# Altium schematic symbol library WREL_AD10_Ben.SchLib: 69 symbols
Pins are listed as number, name and electrical type; pins without a type are passive.

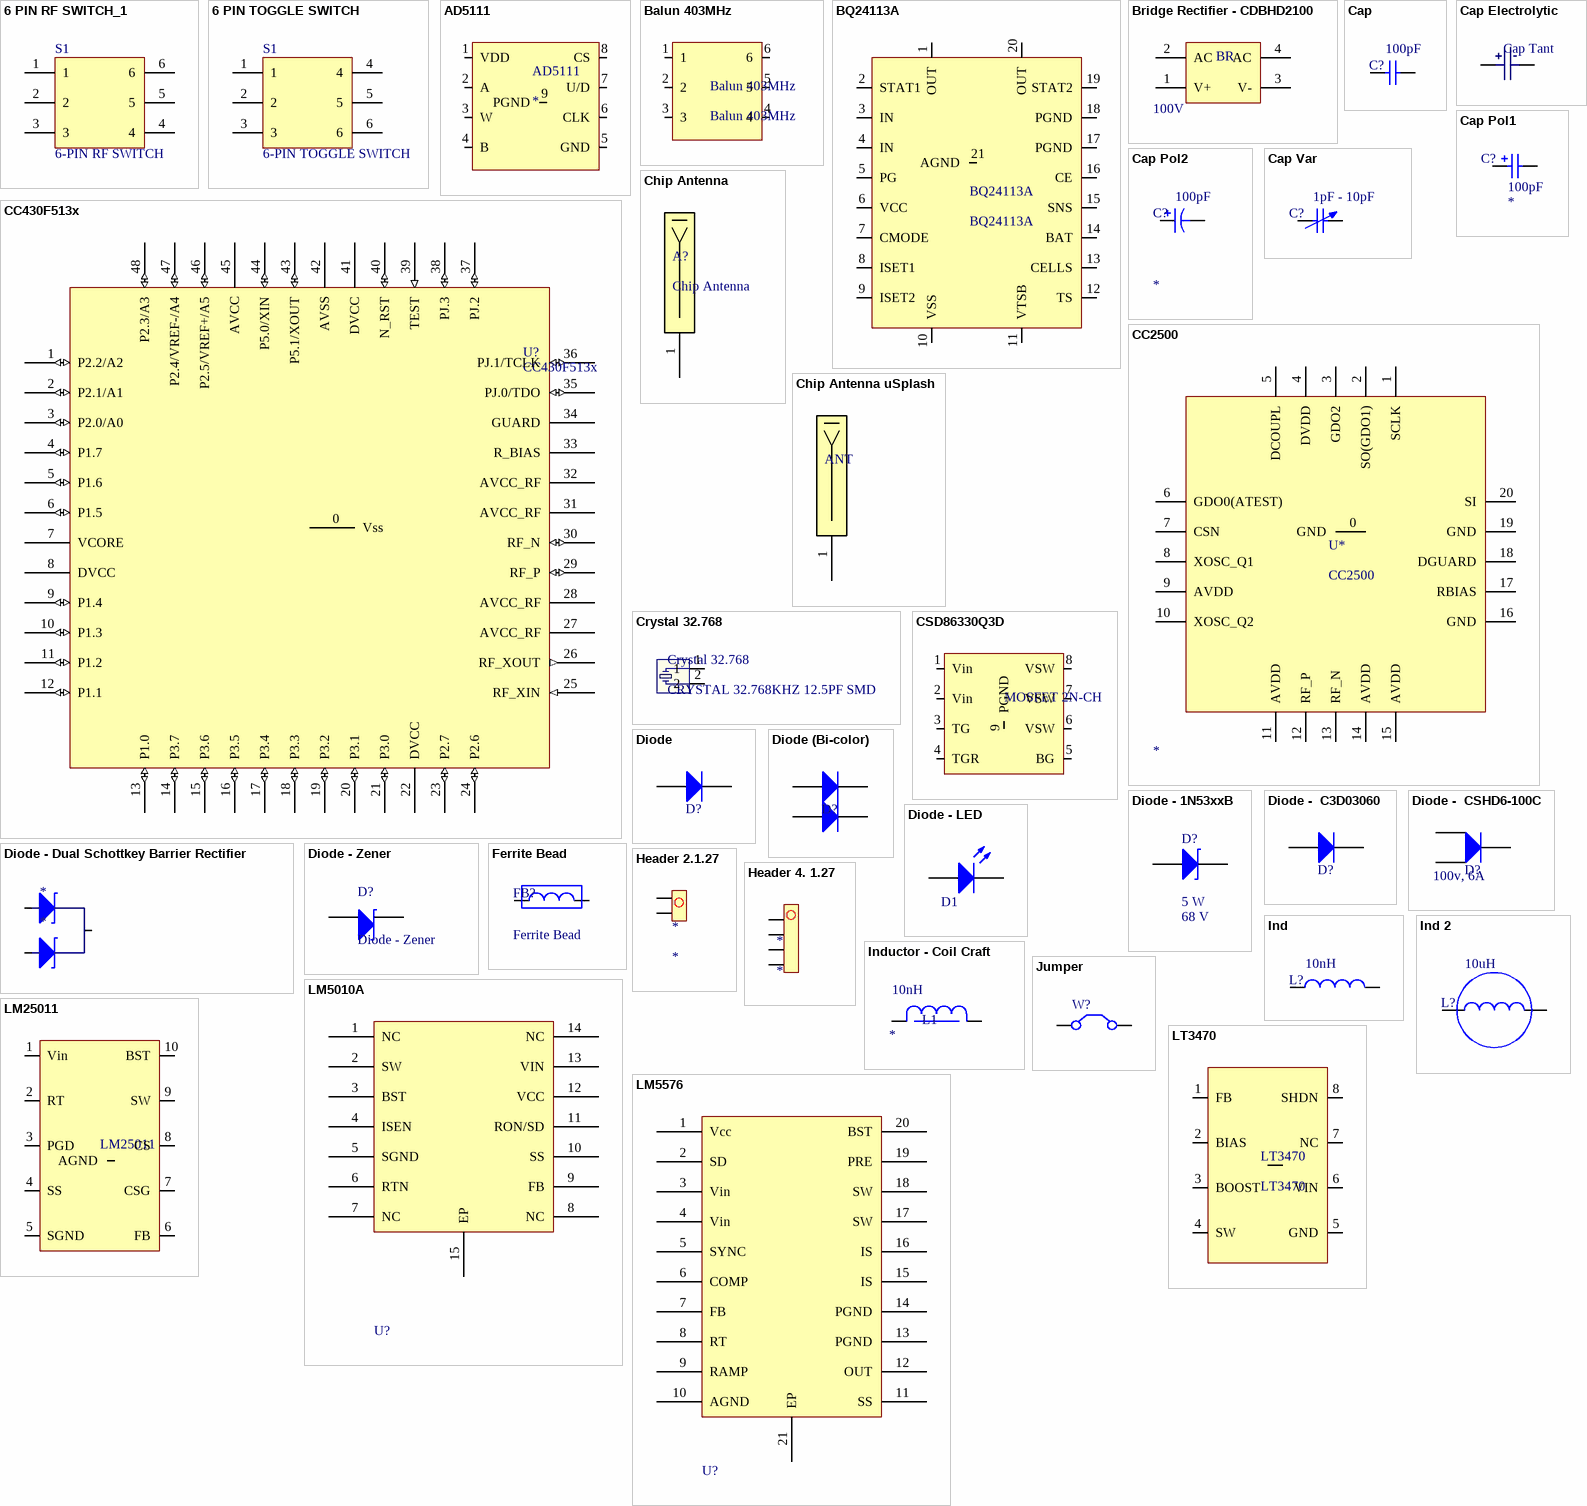
[diagram p0: symbols 6 PIN RF SWITCH_1 to LT3470]

## 6 PIN RF SWITCH_1
designator S1, comment 6-PIN RF SWITCH
6 PIN RF SWITCH; Manufacturer Part Number: AS169-73LF; Manufacturer: Skyworks; Digi-Key Part Number: 863-1002-1-ND; Note: *
footprint SOT-6 (RF Switch 200105E Skyworks)
pins: 1, 2, 3, 4, 5, 6

## 6 PIN TOGGLE SWITCH
designator S1, comment 6-PIN TOGGLE SWITCH
6 PIN TOGGLE SWITCH; Manufacturer Part Number: 200UDP1T1A1M2RE; Manufacturer: E-Switch; Digi-Key Part Number: EG4911-ND; Note: *
footprint 6-PIN TOGGLE SWITCH (6 PIN TOGGLE SWITCH)
pins: 1, 2, 3, 4, 5, 6

## AD5111
designator AD5111
IC DGTL POT 128POS 80K 8LFCSP; Manufacturer Part Number: AD5111BCPZ80-RL7; Manufacturer: Analog Devices Inc; Digi-Key Part Number: AD5111BCPZ80-RL7CT-ND
footprint AD5111 (IC DGTL POT 128POS 80K 8LFCSP)
pins: 1 VDD "1", 2 A "1", 3 W "1", 4 B "1", 5 GND "1", 6 CLK "1", 7 U/D "1", 8 CS "1", 9 PGND "1"

## Balun 403MHz
designator Balun 403MHz
FILTER BANDPASS 430-435MHZ TI; Manufacturer: Johanson Technology Inc; Manufacturer Part Number: 0433BM15A0001E; Digi-Key Part Number: 712-1540-1-ND
footprint Balun 403MHz (FILTER BANDPASS 430-435MHZ TI)
pins: 1, 2 "1", 3 "1", 4 "1", 5 "1", 6 "1"

## BQ24113A
designator BQ24113A
IC LI-ION/POL CHARGE MGMT 20-QFN; Manufacturer Part Number: BQ24113ARHLT; Manufacturer: Texas Instruments; Rating: 16V 2A; Digi-Key Part Number: 296-22087-1-ND
footprint BQ24113A (BATTERY CHARGER IC)
footprint BQ24113 (From TI Website for BQ24113)
pins: 1 OUT, 2 STAT1, 3 IN, 4 IN, 5 PG, 6 VCC, 7 CMODE, 8 ISET1, 9 ISET2, 10 VSS, 11 VTSB, 12 TS, 13 CELLS, 14 BAT, 15 SNS, 16 CE, 17 PGND, 18 PGND, 19 STAT2, 20 OUT, 21 AGND "1"

## Bridge Rectifier - CDBHD2100
designator BR  value 100V  Rating: 2A  (hidden comment: *)
Surface Mount 2A 100V Bridge Rectifier TO-269AA; Manufacturer: ComChip; Manufacturer Part #: CDBHD2100-G; Digi-Key Part #: 641-1212-6-ND; Note: *
footprint TO-269-AA
pins: 1 V+, 2 AC, 3 V-, 4 AC

## Cap
designator C?  value 100pF  (hidden comment: Cap)
Ceramic Capacitor (Surface Mount); Manufacturer: Generic Ceramic Chip Cap (TBD); Digi-Key Part Number: *; Manufacturer Part Number: *; Note: *; Rating: *
footprint 0402 (Surface Mount; Body 1 x 0.5 mm (LxW typ))
footprint 0402-W (Surface Mount - Wide; Body 1.0 x 0.5 mm (LxW typ))
footprint 0603-W (Surface Mount - Wide; Body 1.6 x 0.8 mm (LxW typ))
footprint 0805 (Surface Mount; Body 2.0 x 1.25 mm (LxW typ))
footprint 0805-W (Surface Mount - Wide; Body 2.0 x 1.25 mm (LxW typ))
footprint 1206 (Surface Mount; Body 3.2 x 1.6 mm (LxW typ))
footprint 1206-W (Surface Mount - Wide; Body 3.2 x 1.6 mm (LxW typ))
footprint 1210 (Surface Mount; Body 3.2 x 2.5 mm (LxW typ))
footprint 1210-W (Chip Capacitor; Body 3.2 x 2.5 mm (LxW typ))
footprint 1812-W (Chip Capacitor; Body 4.5 x 3.2 mm (LxW typ))
footprint 0603 (Surface Mount; Body 1.6 x 0.8 mm (LxW typ))
footprint 0201
pins: 1, 2

## Cap Electrolytic
designator Cap Tant, comment Cap Elect  (value not drawn)
CAP TANT 10UF 16V 20% 0805; Digi-Key Part Number: *; Manufacturer: *; Manufacturer Part Number: *
footprint CAP ELectroytic 0805
pins: 1, 2 "1"

## Cap Pol1
designator C?  value 100pF  (hidden comment: Cap Pol1)
Polarized Capacitor; Manufacturer: *; Manufacturer Part Number: *; Digi-Key Part Number: *; Rating: *
footprint Capacitor - [10mm x 20mm](Side) (Electrolytic Capacitors, Radial Can on side [10mm x 20mm])
pins: 1, 2
1 alternate drawing of the same symbol

## Cap Pol2
designator C?  value 100pF  (hidden comment: Cap Pol2)
Polarized Capacitor (Radial); Digi-Key Part Number: *; Manufacturer Part Number: *; Manufacturer: *; Rating: *
pins: 1, 2
1 alternate drawing of the same symbol

## Cap Var
designator C?  value 1pF - 10pF  (hidden comment: Cap Var)
Variable or Adjustable Capacitor; Manufacturer: *; Manufacturer Part Number: *; Digi-Key Part Number: *; Rating: *
pins: 1, 2

## CC430F513x
designator U?
48-RGZ CC430F513x; Manufacturer: Texas Instruments; Manufacturer Part Number: CC430F5137IRGZ; Note: *; Digi-Key Part Number: 296-25330-5-ND
footprint 48 RGZ High Density (CC430F513x - QFN, 48-Leads, Body 7x7mm, Pitch 0.5mm, IPC High Density)
footprint 48 RGZ Medium Density (CC430F513x - QFN, 48-Leads, Body 7x7mm, Pitch 0.5mm, IPC Medium Density)
pins: 0 Vss (power) "Ground supply", 1 P2.2/A2 (io) "General purpose digital I/O", 2 P2.1/A1 (io) "General purpose digital I/O", 3 P2.0/A0 (io) "General purpose digital I/O", 4 P1.7 (io) "General purpose digital I/O", 5 P1.6 (io) "General purpose digital I/O", 6 P1.5 (io), 7 VCORE (power) "Regulated core power supply", 8 DVCC (power) "Digital power supply", 9 P1.4 (io) "General purpose digital I/O", 10 P1.3 (io) "General purpose digital I/O", 11 P1.2 (io) "General purpose digital I/O", 12 P1.1 (io) "General purpose digital I/O", 13 P1.0 (io) "General purpose digital I/O", 14 P3.7 (io) "General purpose digital I/O", 15 P3.6 (io) "General purpose digital I/O", 16 P3.5 (io) "General purpose digital I/O", 17 P3.4 (io) "General purpose digital I/O", 18 P3.3 (io) "General purpose digital I/O", 19 P3.2 (io) "General purpose digital I/O", 20 P3.1 (io) "General purpose digital I/O", 21 P3.0 (io) "General purpose digital I/O", 22 DVCC (power) "Digital power supply", 23 P2.7 (io) "General purpose digital I/O", 24 P2.6 (io) "General purpose digital I/O", 25 RF_XIN (in) "Input terminal RF crystal oscillator or clock", 26 RF_XOUT (out) "Output terminal for RF crystal oscillator", 27 AVCC_RF (power) "Radio analog power supply", 28 AVCC_RF (power) "Radio analog power supply", 29 RF_P (io) "Positive RF input to LNA in receive mode/Positive RF output from PA in transmit mode", 30 RF_N (io) "Negative RF input to LNA in receive mode/Negative RF output from PA in transmit mode", 31 AVCC_RF (power) "Radio analog power supply", 32 AVCC_RF (power) "Radio analog power supply", 33 R_BIAS "External bias resistor for radio reference current", 34 GUARD (power) "Power supply connection for digital noise isolation", 35 PJ.0/TDO (io) "General purpose digital I/O", 36 PJ.1/TCLK (io) "General purpose digital I/O", 37 PJ.2 (io) "General purpose digital I/O", 38 PJ.3 (io) "General purpose digital I/O", 39 TEST (in) "Test mode pin", 40 N_RST (io) "Reset input active low", 41 DVCC (power) "Digital power supply", 42 AVSS (power) "Analog ground supply for ADC12", 43 P5.1/XOUT (io) "General purpose digital I/O", 44 P5.0/XIN (io) "General purpose digital I/O", 45 AVCC (power) "Analog power supply", 46 P2.5/VREF+/A5 (io) "General purpose digital I/O", 47 P2.4/VREF-/A4 (io) "General purpose digital I/O", 48 P2.3/A3 (io) "General purpose digital I/O"

## CC2500
designator U*
2.4 GHz RF Transceiver, Low-Cost Low-Power; Manufacturer Part Number: CC2500RTKR; Manufacturer: Texas Instruments; Digi-Key Part Number: 296-19586-1-ND; Notes: *
footprint 20-QFN (20 pin QFN as per CC2500 datasheet)
footprint 20-QFN - Solder Mask  Mode (20 pin QFN as per CC2500 datasheet)
pins: 0 GND, 1 SCLK, 2 SO(GDO1), 3 GDO2, 4 DVDD, 5 DCOUPL, 6 GDO0(ATEST), 7 CSN, 8 XOSC_Q1, 9 AVDD, 10 XOSC_Q2, 11 AVDD, 12 RF_P, 13 RF_N, 14 AVDD, 15 AVDD, 16 GND, 17 RBIAS, 18 DGUARD, 19 GND, 20 SI

## Chip Antenna
designator A?
ANTENNA MULTILAYER 2.4-2.5GHZ; Manufacturer: Wurth Electronics Inc; Manufacturer Part Number: 7488910245; Digi-Key Part Number: 732-1838-1-ND
footprint Chip Antenna 9.5mm x 2mm
footprint Chip Antenna 5.5mm x 2mm (Johanson 915 - 2.5mm) (For the CC430 (http://www.johansontechnology.com/images/stories/tech-notes/ti/783-868-915-953-2450MHZ_ISM_Solution_Johanson.pdf))
footprint Chip Antenna 5.5mm x 2mm (Johanson 868) (For the CC430 (http://www.johansontechnology.com/images/stories/tech-notes/ti/783-868-915-953-2450MHZ_ISM_Solution_Johanson.pdf))
footprint Chip Antenna 5.5mm x 2mm (Johanson 915 - 1.5mm) (For the CC430 (http://www.johansontechnology.com/images/stories/tech-notes/ti/783-868-915-953-2450MHZ_ISM_Solution_Johanson.pdf))
footprint WE-MCA (ANTENNA MULTILAYER SMD)
pins: 1, 2

## Chip Antenna uSplash
designator ANT, comment Antenna  (value not drawn)
403MHZ CHIP ANTENNA; Manufacturer: Linx Technologies Inc; Manufacturer Part Number: ANT-403-USP; Digi-Key Part Number: ANT-403-USP-ND
footprint uSplash 403 MHz (Chip Antenna)
pins: 1, 2, 3

## Crystal 32.768
designator Crystal 32.768, comment CRYSTAL 32.768KHZ 12.5PF SMD
Manufacturer: EPSON; Manufacturer Part Number: FC-135 32.7680KA-A3; Digi-Key Part Number: SE2413CT-ND
footprint Crystal 32.768 (CRYSTAL 32.768KHZ 12.5PF SMD)
signal-integrity model Model Name (Model Description)
pins: 1, 2 "1"

## CSD86330Q3D
designator MOSFET 2N-CH, comment MOSFET 2N-CH 25V 20A 8SON  (value not drawn)
Manufacturer: Texas Instruments; Manufacturer Part Number: CSD86330Q3D; Digi-Key Part Number: 296-28216-1-ND
footprint CSD86330Q3D (MOSFET 2N-CH 25V 20A 8SON)
pins: 1 Vin "1", 2 Vin "1", 3 TG "1", 4 TGR "1", 5 BG "1", 6 VSW "1", 7 VSW "1", 8 VSW "1", 9 PGND "1"

## Diode
designator D?  (value not drawn)
General Purpose Diode; Manufacturer: *; Manufacturer Part Number: *; Digi-Key Part Number: *; Value: *; Rating: *; Note: *
footprint Diode - SOD128 (Diode: Body 1.6 x 0.8 mm (LxW typ))
footprint SBR3U30P1 (PowerDI®123)
footprint CRS08-1 (TOSHIBA Schottky Barrier Rectifier)
footprint CDBMH340-HF
footprint Diode- Schottky Barrier Diode Package : SOD-123F (DIODE SCHOTTKY 60V 2A MINI2)
footprint CMS04 (DIODE SCHOTTKY 30V 5A MFLAT)
footprint MBRA340T3-D
footprint SC79
pins: 1 A, 2 C

## Diode (Bi-color)
designator D?  (value not drawn)
Bi-color LEDs; Manufacturer: *; Manufacturer Part Number: *; Digi-Key Part Number: *; Value: *; Rating: *; Note: *
footprint Diode - SOD128 (Diode: Body 1.6 x 0.8 mm (LxW typ))
footprint 0603 (for Bi-color LEDs) (Miniature Bi-Color Surface Mount ChipLEDs)
footprint DB5S308K0R (DIODE SCHOTTKY 30V 100MA SSMINI5)
pins: 1 A, 2 C, 3 A, 4 C

## Diode - 1N53xxB
designator D?  value 5 W  Rating: 68 V  (hidden comment: Diode - 1N53xxB)
Diode - Zener; Manufacturer Part Number: 1N5373BG (68v, many option); Manufacturer: ON Semiconductor; Digi-Key Part Number: 1N5373BGOS-ND (68v, many option); Note: *
footprint T-18 (Through Hole,  ON Semiconductor 1N53xxB, CASE 017AA-01)
footprint T-18 - Long (Through Hole,  ON Semiconductor 1N53xxB, CASE 017AA-01)
footprint SMBJ5366B-TP (DIODE ZENER 39V 5W DO214AA)
pins: 1 A, 2 K

## Diode -  C3D03060
designator D?  (value not drawn)
High Power Rectifier; Manufacturer: Cree Inc; Manufacturer Part Number: C3D03060E; Digi-Key Part Number: C3D03060E-ND; Value: *; Rating: *; Note: *
footprint Diode - C3D03060 (TO-252-2 (Case connected to Pin 1))
pins: 1 Cathode, 2 Anode

## Diode -  CSHD6-100C
designator D?  Rating: 100v, 6A  (hidden comment: Diode -  CSHD6-100C)
Switching Power Diode; Manufacturer: Central Semiconductor; Manufacturer Part Number: CSHD6-100C; Digi-Key Part Number: Mouser Part #:  610-CSHD6-100C; Value: *; Note: *
footprint Diode - CSHD6-100C (D-Pak (Similar to TO-252AA))
pins: 1 Anode_1, 3 Anode_2, 4 Cathode

## Diode - Dual Schottkey Barrier Rectifier
designator *
footprint PMEG3020CPA (2 A low VF dual MEGA Schottky barrier rectifier)
pins: 1, 2 "1", 3 "1"

## Diode - LED
designator D1, comment LED  (value not drawn)
Typical RED, GREEN, YELLOW, AMBER GaAs LED; Digi-Key Part Number: *; Manufacturer: *; Manufacturer Part Number: *; Note: *; Value: *; Rating: *
footprint Diode - 0603 (Diode: Body 1.6 x 0.8 mm (LxW typ))
footprint LED BLUE
pins: 1 A, 2 K

## Diode - Zener
designator D?
Manufacturer Part Number: *; Manufacturer: *; Digi-Key Part Number: *; Note: *
pins: 1 A, 2 K

## Ferrite Bead
designator FB?
Ferrite bead, RF choke; Manufacturer: example: Taiyo Yuden; Manufacturer Part Number: example: BK1608HS330-T; Digi-Key Part Number: example: 587-1871-1-ND; Rating: *; Note: *; Value: *
footprint 0402 (Surface Mount; Body 1 x 0.5 mm (LxW typ))
footprint 0402-W (Surface Mount - Wide; Body 1.0 x 0.5 mm (LxW typ))
footprint 0603 (Surface Mount; Body 1.6 x 0.8 mm (LxW typ))
footprint 0603-W (Surface Mount - Wide; Body 1.6 x 0.8 mm (LxW typ))
footprint 0805 (Surface Mount; Body 2.0 x 1.25 mm (LxW typ))
footprint 0805-W (Surface Mount - Wide; Body 2.0 x 1.25 mm (LxW typ))
footprint 1206 (Surface Mount; Body 3.2 x 1.6 mm (LxW typ))
footprint 1206-W (Surface Mount - Wide; Body 3.2 x 1.6 mm (LxW typ))
footprint 0201
pins: 1, 2

## Header 2.1.27
designator *
footprint Header 2
pins: 1, 2 "1"

## Header 4. 1.27
designator *
footprint Header 4.127
pins: 1, 2 "1", 3 "1", 4 "1"

## Ind
designator L?  value 10nH  (hidden comment: Ind)
Inductor (Surface Mount); Digi-Key Part Number: *; Manufacturer: *; Manufacturer Part Number: *; Rating: *; Note: *
footprint 0402 (Surface Mount; Body 1 x 0.5 mm (LxW typ))
footprint 0402-W (Surface Mount - Wide; Body 1.0 x 0.5 mm (LxW typ))
footprint 0603 (Surface Mount; Body 1.6 x 0.8 mm (LxW typ))
footprint 0603-W (Surface Mount - Wide; Body 1.6 x 0.8 mm (LxW typ))
footprint 0805 (Surface Mount; Body 2.0 x 1.25 mm (LxW typ))
footprint 0805-W (Surface Mount - Wide; Body 2.0 x 1.25 mm (LxW typ))
footprint 1206 (Surface Mount; Body 3.2 x 1.6 mm (LxW typ))
footprint 1206-W (Surface Mount - Wide; Body 3.2 x 1.6 mm (LxW typ))
footprint 1210 (Surface Mount; Body 3.2 x 2.5 mm (LxW typ))
footprint 1210-W (Chip Capacitor; Body 3.2 x 2.5 mm (LxW typ))
footprint INDUCTOR 0806
footprint MPI4040R3-6R8-R (INDUCTOR 6.8UH 2A 2 PAD SMD)
footprint IHLP-3232DZ-11
footprint VLC5045
footprint IFSC-1515AH-01
footprint MPI4040R4
footprint WE-LHMI
footprint XAL5030 (Fixed Inductors Power Inductor 3.3 uH 20 % 8.1 A)
footprint XAL7030 (Shielded Power Inductors)
footprint XAL4040 (Fixed Inductors Power Inductor)
footprint 0201
pins: 1, 2

## Ind 2
designator L?  value 10uH  (hidden comment: Ind 2)
Power Inductor; Digi-Key Part Number: *; Manufacturer: *; Manufacturer Part Number: *; Rating: *; Note: *
footprint Inductor - [3mm x 3mm] (Surface mount power inductor (3mm x 3mm))
footprint Inductor - [12.3mm x 12.3mm] (Surface mount power inductor (12.3 x 12.3))
pins: 1, 2

## Inductor - Coil Craft
designator L1, comment value 10nH  (hidden comment: Coil Craft - Inductor)
Inductor Coil Craft; Manufacturer Part Number: *; Manufacturer: Coil Craft; Digi-Key Part Number: *; Note: *; Rating: *
footprint Inductor - Midi Spring (Coil Craft - Midi Spring - Air Core Inductors)
footprint Inductor - Maxi Spring (Coil Craft - Maxi Spring - Air Core Inductors)
pins: 1, 2

## Jumper
designator W?
Jumper Wire; Published: 24-Mar-1999; LatestRevisionDate: 17-Jul-2002; LatestRevisionNote: Re-released for DXP Platform.; PackageReference: RAD-0.2; Publisher: Altium Limited; PackageDescription: Radial Cap, Thru-Hole; 2 Leads; 0.2 in Pin Spacing
footprint RAD-0.2 (Radial Cap, Thru-Hole; 2 Leads; 0.2 in Pin Spacing)
pins: 1 C1, 2 C2

## LM5010A
designator U?, comment PMIC - Buck Converter  (value not drawn)
IC REG SW 1A 14-TSSOP -Epad, 75v - 1A; Manufacturer Part Number: LM5010AQ0MH/NOPB; Manufacturer: National Semiconductor; Digi-Key Part Number: LM5010AQ0MH-ND; Note: *
footprint LM5010A (75V 1A Step-Down Switching Regulator)
pins: 1 NC, 2 SW, 3 BST, 4 ISEN, 5 SGND, 6 RTN, 7 NC, 8 NC, 9 FB, 10 SS, 11 RON/SD, 12 VCC, 13 VIN, 14 NC, 15 EP

## LM5576
designator U?, comment PMIC - Buck Converter  (value not drawn)
IC BUCK SYNC ADJ 3A 20TSSOP -Epad, 75v - 3A; Manufacturer Part Number: LM5576MH; Manufacturer: National Semiconductor; Digi-Key Part Number: LM5576MH-ND; Note: *
footprint LM5576 (75V 3A Step-Down Switching Regualtor)
pins: 1 Vcc, 2 SD, 3 Vin, 4 Vin, 5 SYNC, 6 COMP, 7 FB, 8 RT, 9 RAMP, 10 AGND, 11 SS, 12 OUT, 13 PGND, 14 PGND, 15 IS, 16 IS, 17 SW, 18 SW, 19 PRE, 20 BST, 21 EP

## LM25011
designator LM25011, comment IC REG BUCK ADJ 2A 10MSOP  (value not drawn)
Manufacturer Part Number: LM25011MY/NOPB; Digi-Key Part Number: LM25011MY/NOPBCT-ND
footprint LM25011 (IC REG BUCK ADJ 2A 10MSOP)
pins: 1 Vin "1", 2 RT "1", 3 PGD "1", 4 SS "1", 5 SGND "1", 6 FB "1", 7 CSG "1", 8 CS "1", 9 SW "1", 10 BST "1", 11 AGND "1"

## LT3470
designator LT3470
IC REG BUCK ADJ 0.2A 8DFN; Manufacturer Part Number: LT3470IDDB#TRMPBF; Manufacturer: Linear Technology; Digi-Key Part Number: LT3470IDDB#TRMPBFCT-ND
footprint LT3470
signal-integrity model Model Name (Model Description)
pins: 1 FB, 2 BIAS, 3 BOOST, 4 SW, 5 GND, 6 VIN, 7 NC, 8 SHDN, 9

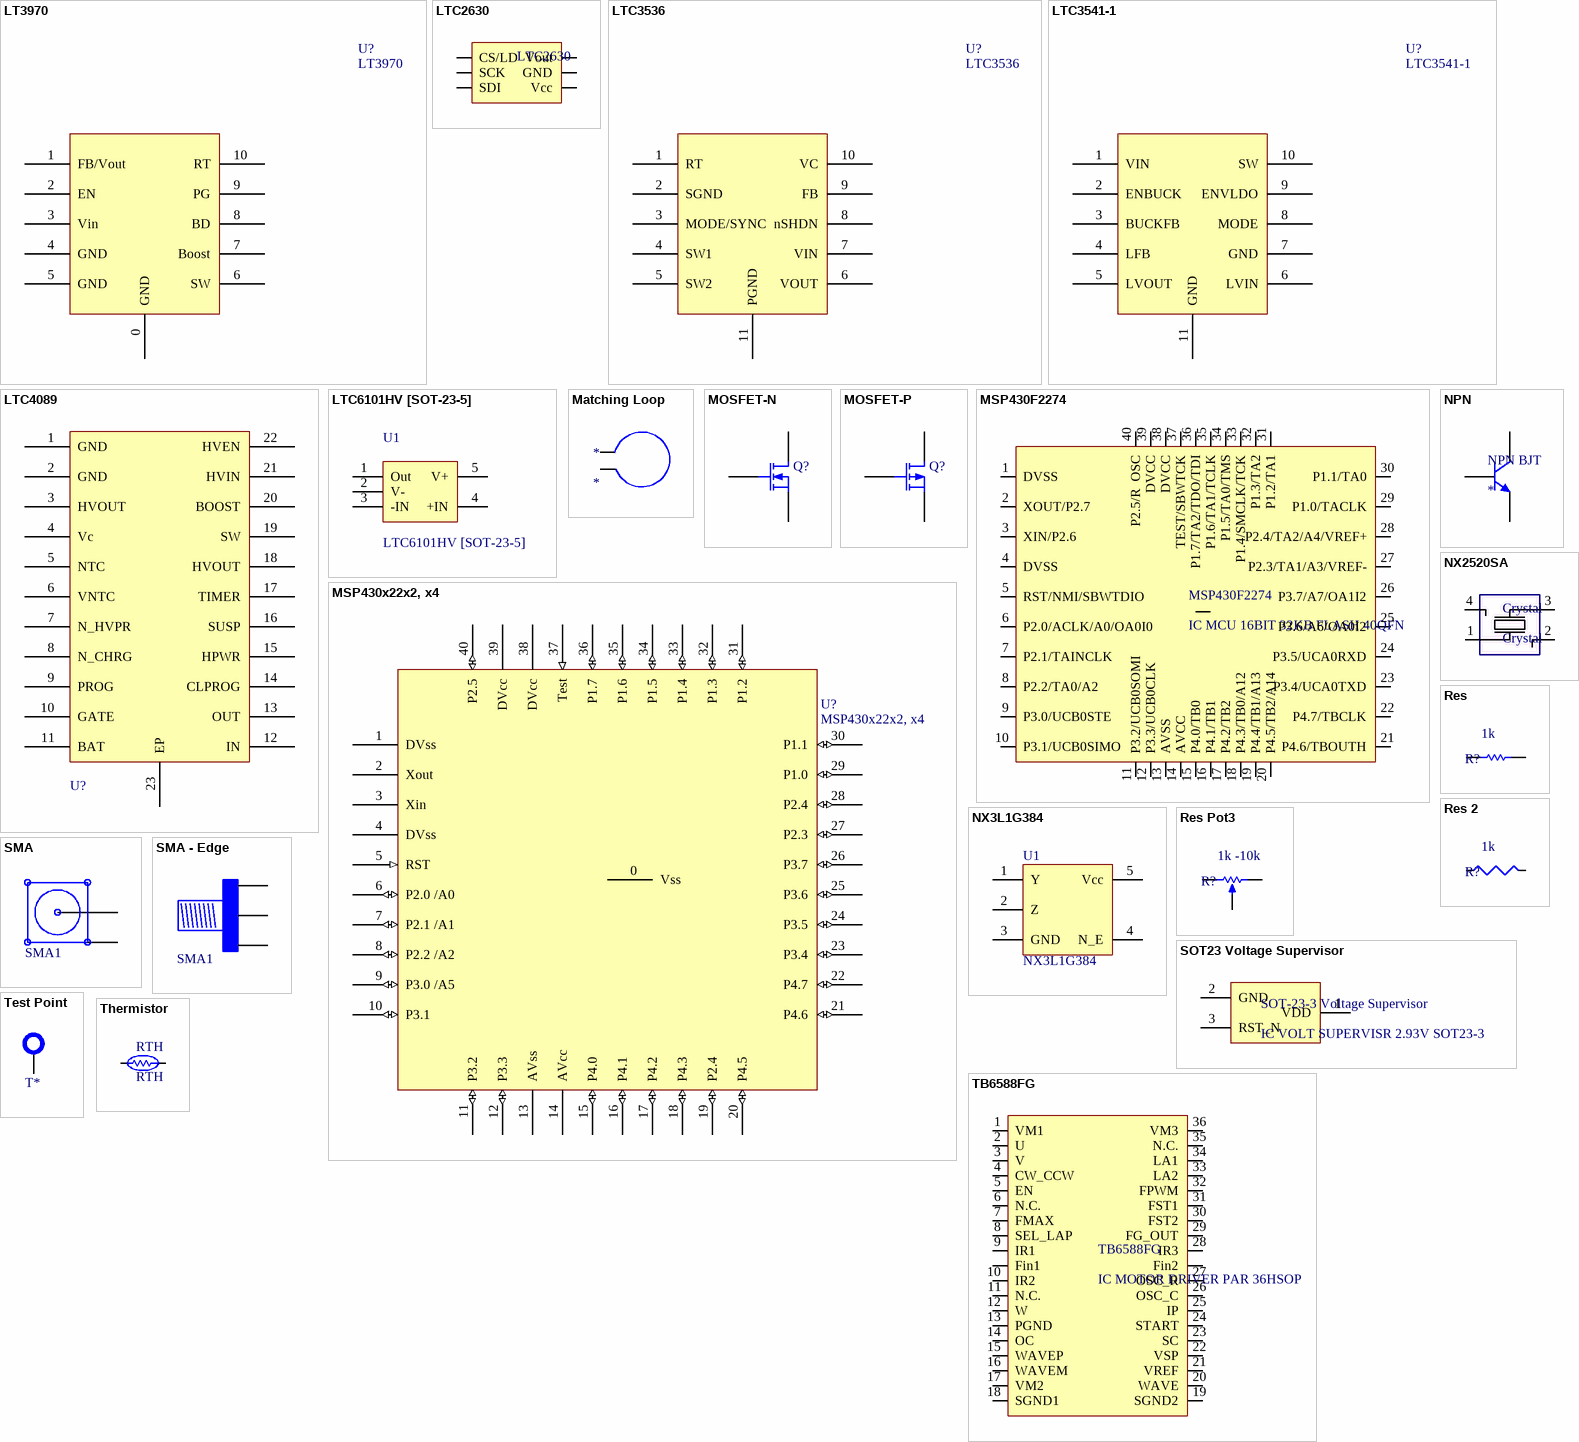
[diagram p1: symbols LT3970 to Thermistor]

## LT3970
designator U?
DFN-10, Buck converter - 350mA; Manufacturer: Linear Technology; Manufacturer Part Number: LT3970EDDB-3.3#TRMPBF; Note: *; Digi-Key Part Number: LT3970EDDB-3.3#TRMPBFCT-ND
footprint LT3970 (DFN-10, (3mmx2mm))
pins: 0 GND, 1 FB/Vout, 2 EN, 3 Vin, 4 GND, 5 GND, 6 SW, 7 Boost, 8 BD, 9 PG, 10 RT

## LTC2630
designator LTC2630, comment DAQ  (value not drawn)
IC DAC 12BIT R-R SC70-6; Manufacturer: Linear Technology; Manufacturer Part Number: LTC2630AISC6-HZ12#TRMPBF; Digi-Key Part Number: LTC2630AISC6-HZ12#TRMPBFCT-ND
footprint LTC2630 (DAQ)
pins: 1 CS/LD, 2 SCK, 3 SDI, 4 Vcc, 5 GND, 6 Vout

## LTC3536
designator U?
DFN-10, Buck-Boost Converter; Manufacturer: Linear Technology; Note: *; Digi-Key Part Number: LTC3536EDD#PBF-ND; Manufacturer Part Number: LTC3536
footprint LT3970 (DFN-10, (3mmx2mm))
footprint LTC3536 (DFN-10, (3mmx3mm))
pins: 1 RT, 2 SGND, 3 MODE/SYNC, 4 SW1, 5 SW2, 6 VOUT, 7 VIN, 8 nSHDN, 9 FB, 10 VC, 11 PGND

## LTC3541-1
designator U?
High Efficiency  Buck + VLDO Regulator (VIN: 2.7V to 5.5V); Manufacturer: Linear Technology; Note: *; Digi-Key Part Number: LTC3541-1; Manufacturer Part Number: LTC3541-1
footprint LT3970 (DFN-10, (3mmx2mm))
footprint LTC3536 (DFN-10, (3mmx3mm))
pins: 1 VIN, 2 ENBUCK, 3 BUCKFB, 4 LFB, 5 LVOUT, 6 LVIN, 7 GND, 8 MODE, 9 ENVLDO, 10 SW, 11 GND

## LTC4089
designator U?, comment PMIC - USB Power Solution  (value not drawn)
PMIC Switching Charger 22-DFN EP, 5-36V 1.2A; Manufacturer Part Number: LTC4089/-5; Manufacturer: Linear Technology; Digi-Key Part Number: LTC4089EDJC#PBF-ND; Note: *
footprint 22-DFN (Tiny (6mm ?3mm ?0.75mm) 22-Pin DFN Package)
pins: 1 GND, 2 GND, 3 HVOUT, 4 Vc, 5 NTC, 6 VNTC, 7 N_HVPR, 8 N_CHRG, 9 PROG, 10 GATE, 11 BAT, 12 IN, 13 OUT, 14 CLPROG, 15 HPWR, 16 SUSP, 17 TIMER, 18 HVOUT, 19 SW, 20 BOOST, 21 HVIN, 22 HVEN, 23 EP

## LTC6101HV [SOT-23-5]
designator U1
High-Side Current Sense Amplifier (High Voltage); Manufacturer Part Number: LTC6101HVACS5; Manufacturer: Linear Technology; Digi-Key Part Number: LTC6101HVACS5#TRMPBFCT-ND; Note: *
footprint SOT23-5
signal-integrity model Model Name (Model Description)
pins: 1 Out, 2 V-, 3 -IN, 4 +IN, 5 V+

## Matching Loop
designator *
K-match Loop; Series Capacitance: Cs; Parallel Capacitance: Cp; Type: Loop
footprint Matching Loop (KLC Matching Loop)
pins: 1, 2

## MOSFET-N
designator Q?
N-Channel MOSFET; Published: 8-Jun-2000; LatestRevisionDate: 17-Jul-2002; LatestRevisionNote: Re-released for DXP Platform.; PackageVersion: 1995/1996; PackageReference: E3; Publisher: Altium Limited; PackageDescription: TO, Flat Index; 3 In-Line, Axial Leads; Body Dia. 4.6mm; Lead Dia. 0.5 mm (max)
footprint E3 (TO, Flat Index; 3 In-Line, Axial Leads; Body Dia. 4.6mm; Lead Dia. 0.5 mm (max))
simulation model NMOS (MOSFET-N)
footprint SC-89-3 (SOT490)
footprint CSD17308Q3 (MOSFET N-CH 30V 47A 8SON)
pins: 1 D, 2 G, 3 S

## MOSFET-P
designator Q?
P-Channel MOSFET; Published: 8-Jun-2000; LatestRevisionDate: 17-Jul-2002; LatestRevisionNote: Re-released for DXP Platform.; PackageVersion: 1995/1996; PackageReference: E3; Publisher: Altium Limited; PackageDescription: TO, Flat Index; 3 In-Line, Axial Leads; Body Dia. 4.6mm; Lead Dia. 0.5 mm (max)
footprint E3 (TO, Flat Index; 3 In-Line, Axial Leads; Body Dia. 4.6mm; Lead Dia. 0.5 mm (max))
simulation model PMOS (MOSFET-P)
pins: 1 D, 2 G, 3 S

## MSP430F2274
designator MSP430F2274, comment IC MCU 16BIT 32KB FLASH 40QFN
Manufacturer Part Number: MSP430F2274IRHAT; Manufacturer: Texas Instruments; Digi-Key Part Number: 296-21459-1-ND
signal-integrity model Model Name (Model Description)
footprint MSP430F2274
signal-integrity model Model Name (Model Description)
pins: 1 DVSS, 2 XOUT/P2.7, 3 XIN/P2.6, 4 DVSS, 5 RST/NMI/SBWTDIO, 6 P2.0/ACLK/A0/OA0I0, 7 P2.1/TAINCLK "P2.1/TAINCLK/SMCLK/A1/OA0O", 8 P2.2/TA0/A2 "P2.2/TA0/A2/OA0I1", 9 P3.0/UCB0STE, 10 P3.1/UCB0SIMO, 11 P3.2/UCB0SOMI, 12 P3.3/UCB0CLK, 13 AVSS, 14 AVCC, 15 P4.0/TB0, 16 P4.1/TB1, 17 P4.2/TB2, 18 P4.3/TB0/A12 "P4.3/TB0/A12/OA0O", 19 P4.4/TB1/A13, 20 P4.5/TB2/A14, 21 P4.6/TBOUTH, 22 P4.7/TBCLK, 23 P3.4/UCA0TXD, 24 P3.5/UCA0RXD, 25 P3.6/A6/OA0I2, 26 P3.7/A7/OA1I2, 27 P2.3/TA1/A3/VREF-, 28 P2.4/TA2/A4/VREF+, 29 P1.0/TACLK, 30 P1.1/TA0, 31 P1.2/TA1, 32 P1.3/TA2, 33 P1.4/SMCLK/TCK, 34 P1.5/TA0/TMS, 35 P1.6/TA1/TCLK "P1.6/TA1/CLK", 36 P1.7/TA2/TDO/TDI, 37 TEST/SBWTCK, 38 DVCC, 39 DVCC, 40 P2.5/R  OSC, 41 "1"

## MSP430x22x2, x4
designator U?
40QFN - MSP430x22x2, x4; Manufacturer: Texas Instruments; Manufacturer Part Number: MSP430F2272IRHAT (several variants); Note: *; Digi-Key Part Number: 296-21441-1-ND (several variants)
footprint 40-QFN (40-QFN, for MSP430x22x2, x4)
pins: 0 Vss (power) "Output", 1 DVss (power) "Output", 2 Xout "Output", 3 Xin "Output", 4 DVss (power) "Output", 5 RST (in), 6 P2.0 /A0 (io), 7 P2.1 /A1 (io), 8 P2.2 /A2 (io), 9 P3.0 /A5 (io), 10 P3.1 (io), 11 P3.2 (io), 12 P3.3 (io), 13 AVss (power), 14 AVcc (power), 15 P4.0 (io), 16 P4.1 (io), 17 P4.2 (io), 18 P4.3  (io), 19 P2.4 (io), 20 P4.5 (io), 21 P4.6 (io), 22 P4.7 (io), 23 P3.4 (io), 24 P3.5 (io), 25 P3.6 (io), 26 P3.7 (io), 27 P2.3 (io), 28 P2.4 (io), 29 P1.0 (io), 30 P1.1 (io), 31 P1.2 (io), 32 P1.3 (io), 33 P1.4 (io), 34 P1.5 (io), 35 P1.6 (io), 36 P1.7 (io), 37 Test (in), 38 DVcc (power), 39 DVcc (power), 40 P2.5 (io)

## NPN
designator NPN BJT
Manufacturer: Diodes Inc; Digi-Key Part Number: *; Manufacturer Part Number: *
footprint SOT-23  (TO-236) (SOT-23  WIDE)
footprint SOT-523F
pins: 1 B, 2 E, 3 C

## NX3L1G384
designator U1
NX3L1G384 Single Pole Analog Switch; Manufacturer Part Number: NX3L1G384GW,125; Manufacturer: NXP; Digi-Key Part Number: 568-5540-1-ND; Note: *
footprint SOT23-5
pins: 1 Y, 2 Z, 3 GND, 4 N_E, 5 Vcc

## NX2520SA
designator Crystal, comment Crystal
CRYSTAL 26.0MHZ 10PF SMD; Manufacturer Part Number: NX2520SA-26.000000MHZ-B9; Manufacturer: NDK; Digi-Key Part Number: 644-1095-1-ND
footprint NX2520SA
pins: 1, 2 "PGND", 3, 4 "PGND"

## Res
designator R?  value 1k  (hidden comment: Res)
Chip Resistor (Surface Mount); Manufacturer: Generic Chip Res (TBD); Manufacturer Part Number: *; Digi-Key Part Number: *; Rating: *
footprint 0402 (Surface Mount; Body 1 x 0.5 mm (LxW typ))
footprint 0402-W (Surface Mount - Wide; Body 1.0 x 0.5 mm (LxW typ))
footprint 0603 (Surface Mount; Body 1.6 x 0.8 mm (LxW typ))
footprint 0603-W (Surface Mount - Wide; Body 1.6 x 0.8 mm (LxW typ))
footprint 0805 (Surface Mount; Body 2.0 x 1.25 mm (LxW typ))
footprint 0805-W (Surface Mount - Wide; Body 2.0 x 1.25 mm (LxW typ))
footprint 1206 (Surface Mount; Body 3.2 x 1.6 mm (LxW typ))
footprint 1206-W (Surface Mount - Wide; Body 3.2 x 1.6 mm (LxW typ))
footprint 1210 (Surface Mount; Body 3.2 x 2.5 mm (LxW typ))
footprint 1210-W (Chip Capacitor; Body 3.2 x 2.5 mm (LxW typ))
footprint 0201
pins: 1, 2

## Res 2
designator R?  value 1k  (hidden comment: Res 2)
Resistor (other); Manufacturer: *; Manufacturer Part Number: *; Digi-Key Part Number: *; Rating: *
pins: 1, 2

## Res Pot3
designator R?, comment value 1k -10k  (hidden comment: Pot)
Potentiometer 3 Terminal; Manufacturer: *; Manufacturer Part Number: *; Digi-Key Part Number: *; Rating: *
pins: 1 TOP, 2 BOT, 3 TAP

## SMA
designator SMA1  (value not drawn)
SMA - Through Hole Connector; Manufacturer Part Number: *; Manufacturer: *; Digi-Key Part Number: *; Note: *
footprint SMA (SMA Through Hole Connector)
pins: 1, 2

## SMA - Edge
designator SMA1
SMA - Board Edge Connector; Note: *; Digi-Key Part Number: *; Manufacturer Part Number: *; Manufacturer: *
footprint SMA - Edge - Wide (SMA - Board Edge Connector, Wide Body = .375in, no gnd pad)
footprint SMA - Edge - Narrow (SMA - Board Edge Connector, Narrow body = 0.25in)
pins: 1, 1, 2

## SOT23 Voltage Supervisor
designator SOT-23-3 Voltage Supervisor, comment IC VOLT SUPERVISR 2.93V SOT23-3
Manufacturer: Texas Instruments; Manufacturer Part Number: TLV803SDBZR; Digi-Key Part Number: 296-29196-1-ND
footprint SOT-23 (TO-236 3-PIN) (Voltage Supervisor)
pins: 1 VDD, 2 GND, 3 RST_N

## TB6588FG
designator TB6588FG, comment IC MOTOR DRIVER PAR 36HSOP
Manufacturer Part Number: TB6588FG(O,8,EL,JU; Manufacturer: Toshiba; Digi-Key Part Number: TB6588FG(O8ELJUCT-ND
footprint TB6588FG
signal-integrity model Model Name (Model Description)
pins: 1 VM1, 2 U, 3 V, 4 CW_CCW, 5 EN, 6 N.C., 7 FMAX, 8 SEL_LAP, 9 IR1, 10 IR2, 11 N.C., 12 W, 13 PGND, 14 OC, 15 WAVEP, 16 WAVEM, 17 VM2, 18 SGND1, 19 SGND2, 20 WAVE, 21 VREF, 22 VSP, 23 SC, 24 START, 25 IP, 26 OSC_C, 27 OSC_R, 28 IR3, 29 FG_OUT, 30 FST2, 31 FST1, 32 FPWM, 33 LA2, 34 LA1, 35 N.C., 36 VM3, 37 Fin1, 38 Fin2

## Test Point
designator T*  (value not drawn)
Test Point, large or small foot prints; Manufacturer Part Number: Example: 5000, 5013; Manufacturer: Keystone Electronics; Digi-key: Example: 5000K-ND, 5012K-ND; Note: *; Rating: *; Value: *
footprint Test Point - Small (Test Point, 40mil hole, example DK: 5000K-ND)
footprint Test Point - Large (Test Point, 63mil hole, example DK: 5012K-ND)
pins: 0

## Thermistor
designator RTH, comment RTH
THERMISTOR NTC; Digi-Key Part Number: *; Manufacturer Part Number: *; Manufacturer: *; Rating: *
footprint 0402 (Surface Mount; Body 1 x 0.5 mm (LxW typ))
pins: 1, 2 "1"

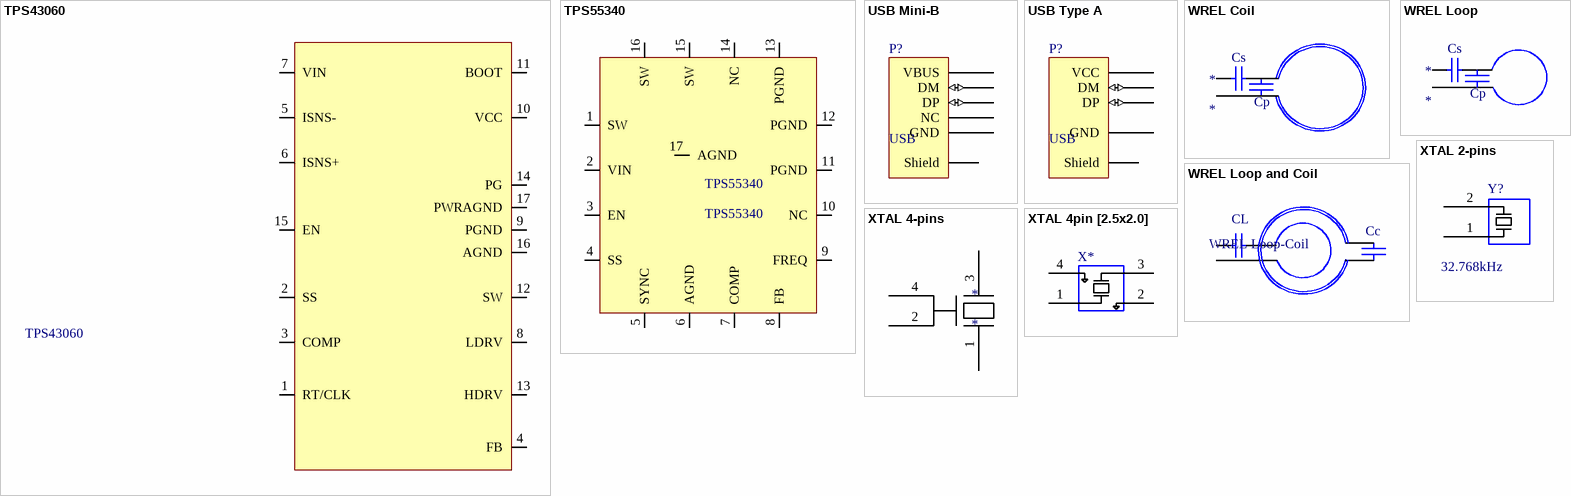
[diagram p2: symbols TPS43060 to XTAL 4pin [2.5x2.0]]

## TPS43060
designator TPS43060, comment IC REG CTRLR BOOST PWM CM 16WQFN  (value not drawn)
Manufacturer: Texas Instruments; Manufacturer Part Number: TPS43061RTER; Digi-Key Part Number: 296-35544-1-ND
footprint TPS55340
signal-integrity model Model Name (Model Description)
pins: 1 RT/CLK, 2 SS, 3 COMP, 4 FB, 5 ISNS-, 6 ISNS+, 7 VIN, 8 LDRV, 9 PGND, 10 VCC, 11 BOOT, 12 SW, 13 HDRV, 14 PG, 15 EN, 16 AGND, 17 PWRAGND

## TPS55340
designator TPS55340
IC REG BST FLYBK SEPIC 16WQFN; Manufacturer Part Number: TPS55340RTET; Manufacturer: Texas Instruments; Digi-Key Part Number: 296-30530-1-ND
footprint TPS55340
signal-integrity model Model Name (Model Description)
pins: 1 SW, 2 VIN, 3 EN, 4 SS, 5 SYNC, 6 AGND, 7 COMP, 8 FB, 9 FREQ, 10 NC, 11 PGND, 12 PGND, 13 PGND, 14 NC, 15 SW, 16 SW, 17 AGND

## USB Mini-B
designator P?, comment USB
Micro B USB connector; Digi-Key Part Number: H11574CT-ND; Note: *; Value: *; Rating: *
footprint USB Mini-B (Hirose UX60A-MB-5ST Mini-B USB Connector)
pins: 0 Shield (power), 1 VBUS (power), 2 DM (io), 3 DP (io), 4 NC (power), 5 GND (power)

## USB Type A
designator P?, comment USB
Micro B USB connector; Digi-Key Part Number: H11574CT-ND; Note: *; Value: *; Rating: *
footprint USB Mini-B (Hirose UX60A-MB-5ST Mini-B USB Connector)
footprint USB Type A (87583-2010blfc) (Connector; USB1.1, Type A, SM; 4 Position; Right Angle)
pins: 0 Shield (power), 1 VCC (power), 2 DM (io), 3 DP (io), 4 GND (power)

## WREL Coil
designator *  Series Capacitance: Cs  Parallel Capacitance: Cp
Songnan WREL coil; Type: Coil
footprint RX Coil (Songnan RX Coil (4.8 x 4.3cm) only)
footprint RX Coil (Caps) (Songnan RX Coil (4.8 x 4.3cm) with series or parallel caps)
footprint TX Coil (Songnan TX Coil (5.78 x 5.25cm) only)
footprint TX Coil (Caps) (Songnan TX Coil (5.78 x 5.25cm) with series and parallel caps)
pins: 1, 2

## WREL Loop
designator *  Series Capacitance: Cs  Parallel Capacitance: Cp
Songnan WREL loop; Type: Loop
footprint RX Loop (Songnan RX Loop (3.1 x 2.8cm) only)
footprint RX Loop (CAPS) (Songnan RX Loop (3.1 x 2.8cm) with parallel or series caps)
footprint TX Loop (Songnan TX Loop (4.53 x 4.18cm) only)
footprint TX Loop (Caps) (Songnan TX Loop (4.53 x 4.18cm) with series and parallel caps)
pins: 1, 2

## WREL Loop and Coil
designator WREL Loop-Coil  Loop Cap Value: CL  Coil Cap Value: Cc  (hidden comment: *)
Songnan WREL loop and coil; Type: Loop and Coil
footprint RX Loop-Coil (Caps) (Songnan RX Loop (3.1 x 2.8cm) and Coil (4.8 x 4.3cm) with Capacitor banks)
footprint TX Loop-Coil (Caps) (Songnan RX Loop (4.53 x 4.18cm) and Coil (5.78 x 5.25cm) with Capacitor banks)
footprint RX Loop-Coil (Songnan RX Loop (3.1 x 2.8cm) and Coil (4.8 x 4.3cm))
footprint TX Loop-Coil (Songnan TX Loop (4.53 x 4.18cm) and Coil (5.78 x 5.25cm) only)
pins: 1, 2

## XTAL 2-pins
designator Y?, comment value 32.768kHz  (hidden comment: XTAL)
Crystal Oscillator - [3.20mm x 1.50mm]; Manufacturer: Epson Toyocom Corporation; Manufacturer Part Number: FC-135 32.7680KA-A3; Digi-Key Part Number: example: SE2413CT-ND
footprint FC-135 (FC-135   crystal - epson eletronics)
pins: 1 (power) "Output", 2 (power) "Output"

## XTAL 4-pins
designator *
Crystal Oscillator
pins: 1, 2, 3, 4

## XTAL 4pin [2.5x2.0]
designator X*  (value not drawn)
4-Pin Surface Mount; Manufacturer Part Number: NX2520SA-26.000000MHZ-B9; Manufacturer: NDK; Digi-Key Part Number: 644-1095-1-ND; Note: NX2520SA-26.000000MHZ-B9; Rating: *; Value: *
footprint XTAL 2.5mm x 2.0mm (CRYSTAL, 2.5mm x 2.0mm,  4Pin)
pins: 1 XIN, 2 Gnd, 3 XOUT, 4 Gnd